# EAGLE library part TPS2111A (library zortness)
TPS2111A Power MUX DigiKey PN 296-16936-1-ND <http://www.digikey.com/product-detail/en/TPS2111APWR/296-16936-1-ND/652790> Data Sheet <http://www.ti.com/lit/ds/symlink/tps2111a.pdf>
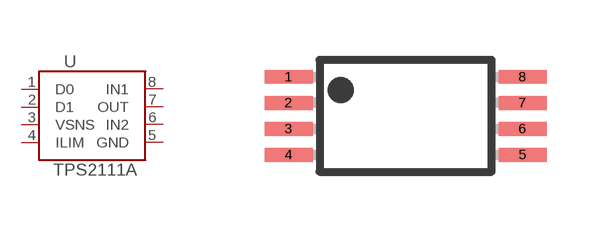
[diagram p7: symbol with the pads of TSSOP8; footprint TSSOP8]

Designator prefix U

## TPS2111A  [TSSOP8]
1  D0  in
2  D1  in
3  VSNS  in
4  ILIM  in
5  GND  pwr
6  IN2  pwr
7  OUT  pwr
8  IN1  pwr

## Footprint TSSOP8 (pad centres in mm)
Plastic Small Outline
smd 1.2 x 0.35: 1 -2.925,0.975; 2 -2.925,0.325; 3 -2.925,-0.325; 4 -2.925,-0.975; 5 2.925,-0.975; 6 2.925,-0.325; 7 2.925,0.325; 8 2.925,0.975